# Altium schematic symbol library TRANS-JFET-N-GSD.SCHLIB: 1 symbol
Pins are listed as number, name and electrical type; pins without a type are passive.

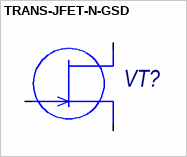
[diagram p0: symbol TRANS-JFET-N-GSD]

## TRANS-JFET-N-GSD
designator VT?
MOSFET
pins: 1 G, 2 S, 3 D